# EAGLE library part MCP73837 (library chargers)
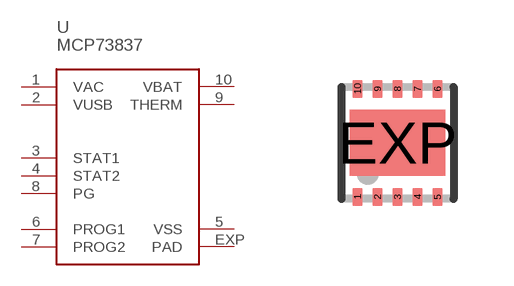
[diagram p0: symbol with the pads of DFN10-3X3; footprint DFN10-3X3]

Designator prefix -

## MCP73837MF  [DFN10-3X3]
1  VAC
2  VUSB
3  STAT1
4  STAT2
5  VSS
6  PROG1
7  PROG2
8  PG
9  THERM
10  VBAT
EXP  PAD

## Footprint DFN10-3X3 (pad centres in mm)
DD Package 10-Lead Plastic DFN (3mm × 3mm) (Reference LTC DWG # 05-08-1669) Source: http://www.linear.com .. 4062fa.pdf
smd 0.25 x 0.45: 1 -1,-1.35; 2 -0.5,-1.35; 3 0,-1.35; 4 0.5,-1.35; 5 1,-1.35; 6 1,1.35; 7 0.5,1.35; 8 0,1.35; 9 -0.5,1.35; 10 -1,1.35
smd 2.38 x 1.65: EXP 0,0